# Altium footprint library CAP's.PcbLib: 41 footprints (part 2 of 3)
Each footprint in its own frame and in the unit in brackets; x right, y up, seen from the top. Pads: shape width x height; smd on the part's side, far side on the other; paste and mask are expansions set on the pad; w line width, h text height; cw(c..) or ccw(c..) is an arc to the next point about the centre after c.
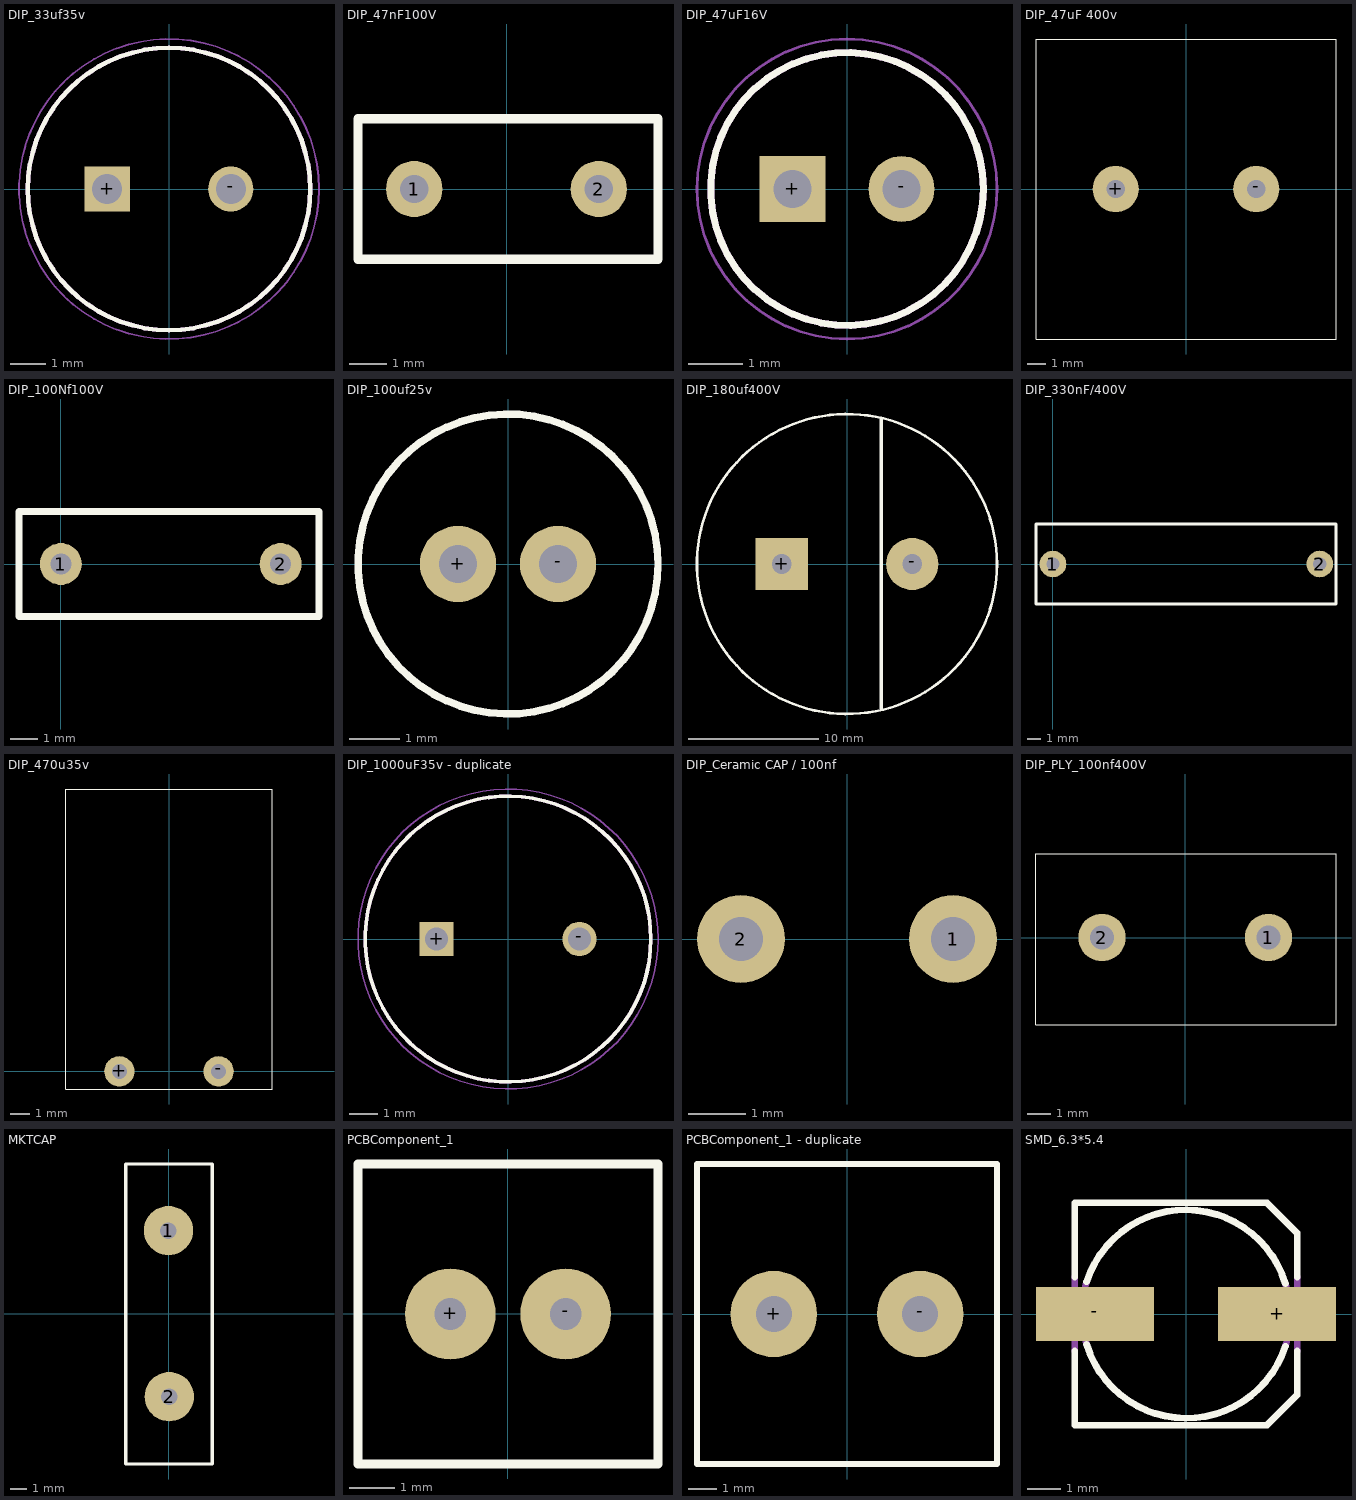
[diagram p1: the footprints below, top view; thin cyan lines are the x and y axes]

## DIP_33uf35v [mm]
pads (2):
  rect 1.28x1.28 hole 0.85: +(-1.75,0)
  round 1.28 hole 0.85: -(1.75,0)
Top Overlay:
  circle w0.127: c0,0 r4
Mechanical 13:
  circle w0.127: c0,0 r4
Mechanical 15:
  circle w0.05: c0,0 r4.25

## DIP_47nF100V [mil]
pads (2):
  round 60 hole 30: 1(-98.43,0) 2(98.43,0)
Top Overlay:
  lines w10: -158.43,-75 161.57,-75 161.57,75 -158.43,75 -158.43,-75

## DIP_47uF16V [mm]
pads (2):
  rect 1.208x1.208 hole 0.7: +(-1,0)
  round 1.208 hole 0.7: -(1,0)
Top Overlay:
  circle w0.127: c0,0 r2.5
Mechanical 13:
  circle w0.127: c0,0 r2.5
Mechanical 15:
  circle w0.05: c0,0 r2.75

## DIP_47uF 400v [mm]
pads (2):
  round 2.5 hole 1: +(-3.81,0) -(3.81,0)
Top Overlay:
  lines w0.05: -8.128,-8.128 -8.128,8.128 8.128,8.128 8.128,-8.128 -8.128,-8.128
3D body "DIP_cap 16x25.step": height 27.9, standoff -1, extent -8.25,-8.25 8.25,8.25

## DIP_100Nf100V [mil]
pads (2):
  round 60 hole 30: 1(0,0) 2(314.96,0)
Top Overlay:
  lines w10: -60,-75 -60,75 370,75 370,-75 -60,-75

## DIP_100uf25v [mil]
pads (2):
  round 60 hole 30: +(-39.37,0) -(39.37,0)
Top Overlay:
  circle w5.91: c0,0 r118.11

## DIP_180uf400V [mm] "CAPXON 25mm*32mm"
pads (2):
  rect 4x4 hole 1.5: +(-5,0)
  round 4 hole 1.5: -(5,0)
Top Overlay:
  circle w0.2: c0,0 r11.5
  lines w0.254: 2.62,-11.049 2.62,11.176
Mechanical 15:
  circle w0.05: c0,0 r11.5

## DIP_330nF/400V [mm]
pads (2):
  round 2 hole 1: 1(0,0) 2(20,0)
Top Overlay:
  lines w0.254: -1.27,-3 -1.27,3 20.574,3 21.209,3 21.209,-3 -1.27,-3

## DIP_470u35v [mil]
pads (2):
  round 60 hole 30: +(-98.43,0) -(98.43,0)
Top Overlay:
  lines w1.97: -205,-35 205,-35 205,560 -205,560 -205,350 -205,-35
3D body "DIP_cap 10x12.5x5 right.step": height 434.07, standoff -105.67, extent -197.85,-12.61 197.85,557.81

## DIP_1000uF35v - duplicate [mm]
pads (2):
  rect 1.2x1.2 hole 0.8: +(-2.5,0)
  round 1.2 hole 0.8: -(2.5,0)
Top Overlay:
  circle w0.127: c0,0 r5
Mechanical 13:
  circle w0.127: c0,0 r5
Mechanical 15:
  circle w0.05: c0,0 r5.25

## DIP_Ceramic CAP / 100nf [mil]
pads (2):
  round 60 hole 30: 1(72.5,0) 2(-72.5,0)
3D body "DIP_Ceramic CAP.step": height 293.64, standoff -59.06, extent -97.5,-39.37 96.09,39.37

## DIP_PLY_100nf400V [mm]
pads (2):
  round 2 hole 1: 1(3.524,0) 2(-3.524,0)
Top Overlay:
  lines w0.05: -6.318,-3.683 6.382,-3.683 6.382,3.556 -6.318,3.556 -6.318,-3.683
3D body "DIP_Polyester capacitor 2.step": height 15, standoff -3, extent -6.218,-3.556 6.282,3.444

## MKTCAP [mm]
pads (2):
  round 3 hole 1: 1(-0.026,5.048) 2(0.026,-5.048)
Top Overlay:
  lines w0.2: -2.618,-9.138 -2.618,9.098 2.633,9.098 2.633,-9.138 -2.618,-9.138
3D body "capacitor_rnd_150mkt563k2eb.stp": height 10.45, standoff -15.55, extent -2.491,-9.022 2.509,8.978

## PCBComponent_1 [mm]
pads (2):
  round 2 hole 0.7: +(-1.27,0) -(1.27,0)
Top Overlay:
  lines w0.2: -3.302,-3.302 3.302,-3.302 3.302,3.302 -3.302,3.302 -3.302,-3.302
3D body "cap_el_d6.3_h11_pitch2.5_w0.5.stp": height 11.01, standoff -3, extent -3.155,-3.175 3.155,3.12

## PCBComponent_1 - duplicate [mm]
pads (2):
  round 3 hole 1.25: +(-2.54,0) -(2.54,0)
Top Overlay:
  lines w0.2: -5.207,-5.207 -5.207,5.207 5.207,5.207 5.207,-5.207 -5.207,-5.207
3D body "cap_el_d10_h16_pitch5_w0.6.stp": height 16.01, standoff -3, extent -5,-5 5.01,5

## SMD_6.3*5.4 [mm]
pads (2):
  rect 3.5x1.6 smd: +(2.7,0) -(-2.7,0)
Top Overlay:
  lines w0.203: -3.3,-1.1 -3.3,-3.3 2.4,-3.3 3.3,-2.4 3.3,-1.1 ; -3.3,1.1 -3.3,3.3 2.4,3.3 3.3,2.4 3.3,1.1 ; -2.949,-0.904 ccw(c0.008,0) 2.948,-0.955 ; -2.948,0.955 cw(c-0.008,0) 2.949,0.904
Mechanical 13:
  lines w0.203: -3.3,-1.1 -3.3,1.1 ; -2.957,-0.879 cw(c0,0.025) -2.957,0.929 ; 2.957,-0.929 ccw(c0,-0.025) 2.957,0.879 ; 3.3,-1.1 3.3,1.1
3D body "SMD_6.3x5.4.step": height 6.9, standoff -0.05, extent -4.5,-4.064 4.5,4.236